# Altium integrated library ALTIUM-WE-LQS-rev18a.IntLib: 212 symbols (part 1 of 3)
Pins are listed as number, name and electrical type; pins without a type are passive.

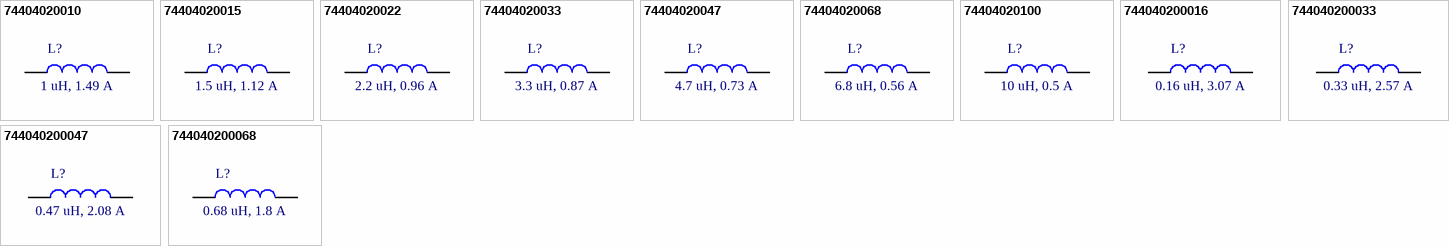
[diagram p0: symbols 74404020010 to 744040200068]

## 74404020010
designator L?, comment 1 uH, 1.49 A
SMT Semi-Shielded Power Inductor WE-LQS, size 2010, 1 uH, 1.49 A; Part Number: 74404020010; Rated Current: 1.49 A; Inductance: 1 uH; DC Resistance max.: 114 mOhm; Self Resonant Frequency: 177 MHz; Saturation Current: 2 A; ComponentLink1Description: Manufacturer; ComponentLink1URL: http://www.we-online.de; ComponentLink2Description: Datasheet; ComponentLink2URL: https://katalog.we-online.de/pbs/datasheet/74404020010.pdf; Published Date: November 2018; Publisher: Wurth Elektronik; Size: 2010; Operating Temperature: -40 to +125 degC; Mounting Technology: SMT; Packaging: Tape and Reel
footprint WE-LQS_2010
pins: 1, 2

## 74404020015
designator L?, comment 1.5 uH, 1.12 A
SMT Semi-Shielded Power Inductor WE-LQS, size 2010, 1.5 uH, 1.12 A; Part Number: 74404020015; Rated Current: 1.12 A; Inductance: 1.5 uH; DC Resistance max.: 174 mOhm; Self Resonant Frequency: 130 MHz; Saturation Current: 1.6 A; ComponentLink1Description: Manufacturer; ComponentLink1URL: http://www.we-online.de; ComponentLink2Description: Datasheet; ComponentLink2URL: https://katalog.we-online.de/pbs/datasheet/74404020015.pdf; Published Date: November 2018; Publisher: Wurth Elektronik; Size: 2010; Operating Temperature: -40 to +125 degC; Mounting Technology: SMT; Packaging: Tape and Reel
footprint WE-LQS_2010
pins: 1, 2

## 74404020022
designator L?, comment 2.2 uH, 0.96 A
SMT Semi-Shielded Power Inductor WE-LQS, size 2010, 2.2 uH, 0.96 A; Part Number: 74404020022; Rated Current: 0.96 A; Inductance: 2.2 uH; DC Resistance max.: 264 mOhm; Self Resonant Frequency: 107 MHz; Saturation Current: 1.4 A; ComponentLink1Description: Manufacturer; ComponentLink1URL: http://www.we-online.de; ComponentLink2Description: Datasheet; ComponentLink2URL: https://katalog.we-online.de/pbs/datasheet/74404020022.pdf; Published Date: November 2018; Publisher: Wurth Elektronik; Size: 2010; Operating Temperature: -40 to +125 degC; Mounting Technology: SMT; Packaging: Tape and Reel
footprint WE-LQS_2010
pins: 1, 2

## 74404020033
designator L?, comment 3.3 uH, 0.87 A
SMT Semi-Shielded Power Inductor WE-LQS, size 2010, 3.3 uH, 0.87 A; Part Number: 74404020033; Rated Current: 0.87 A; Inductance: 3.3 uH; DC Resistance max.: 334.8 mOhm; Self Resonant Frequency: 78 MHz; Saturation Current: 1.1 A; ComponentLink1Description: Manufacturer; ComponentLink1URL: http://www.we-online.de; ComponentLink2Description: Datasheet; ComponentLink2URL: https://katalog.we-online.de/pbs/datasheet/74404020033.pdf; Published Date: November 2018; Publisher: Wurth Elektronik; Size: 2010; Operating Temperature: -40 to +125 degC; Mounting Technology: SMT; Packaging: Tape and Reel
footprint WE-LQS_2010
pins: 1, 2

## 74404020047
designator L?, comment 4.7 uH, 0.73 A
SMT Semi-Shielded Power Inductor WE-LQS, size 2010, 4.7 uH, 0.73 A; Part Number: 74404020047; Rated Current: 0.73 A; Inductance: 4.7 uH; DC Resistance max.: 478.8 mOhm; Self Resonant Frequency: 71 MHz; Saturation Current: 0.8 A; ComponentLink1Description: Manufacturer; ComponentLink1URL: http://www.we-online.de; ComponentLink2Description: Datasheet; ComponentLink2URL: https://katalog.we-online.de/pbs/datasheet/74404020047.pdf; Published Date: November 2018; Publisher: Wurth Elektronik; Size: 2010; Operating Temperature: -40 to +125 degC; Mounting Technology: SMT; Packaging: Tape and Reel
footprint WE-LQS_2010
pins: 1, 2

## 74404020068
designator L?, comment 6.8 uH, 0.56 A
SMT Semi-Shielded Power Inductor WE-LQS, size 2010, 6.8 uH, 0.56 A; Part Number: 74404020068; Rated Current: 0.56 A; Inductance: 6.8 uH; DC Resistance max.: 816 mOhm; Self Resonant Frequency: 52 MHz; Saturation Current: 0.7 A; ComponentLink1Description: Manufacturer; ComponentLink1URL: http://www.we-online.de; ComponentLink2Description: Datasheet; ComponentLink2URL: https://katalog.we-online.de/pbs/datasheet/74404020068.pdf; Published Date: November 2018; Publisher: Wurth Elektronik; Size: 2010; Operating Temperature: -40 to +125 degC; Mounting Technology: SMT; Packaging: Tape and Reel
footprint WE-LQS_2010
pins: 1, 2

## 74404020100
designator L?, comment 10 uH, 0.5 A
SMT Semi-Shielded Power Inductor WE-LQS, size 2010, 10 uH, 0.5 A; Part Number: 74404020100; Rated Current: 0.5 A; Inductance: 10 uH; DC Resistance max.: 1020 mOhm; Self Resonant Frequency: 39 MHz; Saturation Current: 0.6 A; ComponentLink1Description: Manufacturer; ComponentLink1URL: http://www.we-online.de; ComponentLink2Description: Datasheet; ComponentLink2URL: https://katalog.we-online.de/pbs/datasheet/74404020100.pdf; Published Date: November 2018; Publisher: Wurth Elektronik; Size: 2010; Operating Temperature: -40 to +125 degC; Mounting Technology: SMT; Packaging: Tape and Reel
footprint WE-LQS_2010
pins: 1, 2

## 744040200016
designator L?, comment 0.16 uH, 3.07 A
SMT Semi-Shielded Power Inductor WE-LQS, size 2010, 0.16 uH, 3.07 A; Part Number: 744040200016; Rated Current: 3.07 A; Inductance: 0.16 uH; DC Resistance max.: 31.2 mOhm; Self Resonant Frequency: 540 MHz; Saturation Current: 4.9 A; ComponentLink1Description: Manufacturer; ComponentLink1URL: http://www.we-online.de; ComponentLink2Description: Datasheet; ComponentLink2URL: https://katalog.we-online.de/pbs/datasheet/744040200016.pdf; Published Date: November 2018; Publisher: Wurth Elektronik; Size: 2010; Operating Temperature: -40 to +125 degC; Mounting Technology: SMT; Packaging: Tape and Reel
footprint WE-LQS_2010
pins: 1, 2

## 744040200033
designator L?, comment 0.33 uH, 2.57 A
SMT Semi-Shielded Power Inductor WE-LQS, size 2010, 0.33 uH, 2.57 A; Part Number: 744040200033; Rated Current: 2.57 A; Inductance: 0.33 uH; DC Resistance max.: 42 mOhm; Self Resonant Frequency: 363 MHz; Saturation Current: 3.4 A; ComponentLink1Description: Manufacturer; ComponentLink1URL: http://www.we-online.de; ComponentLink2Description: Datasheet; ComponentLink2URL: https://katalog.we-online.de/pbs/datasheet/744040200033.pdf; Published Date: November 2018; Publisher: Wurth Elektronik; Size: 2010; Operating Temperature: -40 to +125 degC; Mounting Technology: SMT; Packaging: Tape and Reel
footprint WE-LQS_2010
pins: 1, 2

## 744040200047
designator L?, comment 0.47 uH, 2.08 A
SMT Semi-Shielded Power Inductor WE-LQS, size 2010, 0.47 uH, 2.08 A; Part Number: 744040200047; Rated Current: 2.08 A; Inductance: 0.47 uH; DC Resistance max.: 58.8 mOhm; Self Resonant Frequency: 293 MHz; Saturation Current: 2.7 A; ComponentLink1Description: Manufacturer; ComponentLink1URL: http://www.we-online.de; ComponentLink2Description: Datasheet; ComponentLink2URL: https://katalog.we-online.de/pbs/datasheet/744040200047.pdf; Published Date: November 2018; Publisher: Wurth Elektronik; Size: 2010; Operating Temperature: -40 to +125 degC; Mounting Technology: SMT; Packaging: Tape and Reel
footprint WE-LQS_2010
pins: 1, 2

## 744040200068
designator L?, comment 0.68 uH, 1.8 A
SMT Semi-Shielded Power Inductor WE-LQS, size 2010, 0.68 uH, 1.8 A; Part Number: 744040200068; Rated Current: 1.8 A; Inductance: 0.68 uH; DC Resistance max.: 75.6 mOhm; Self Resonant Frequency: 196 MHz; Saturation Current: 2.48 A; ComponentLink1Description: Manufacturer; ComponentLink1URL: http://www.we-online.de; ComponentLink2Description: Datasheet; ComponentLink2URL: https://katalog.we-online.de/pbs/datasheet/744040200068.pdf; Published Date: November 2018; Publisher: Wurth Elektronik; Size: 2010; Operating Temperature: -40 to +125 degC; Mounting Technology: SMT; Packaging: Tape and Reel
footprint WE-LQS_2010
pins: 1, 2


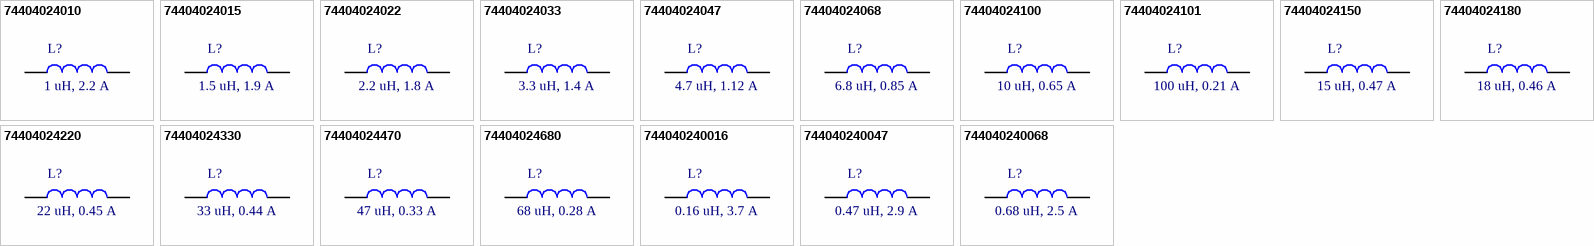
[diagram p1: symbols 74404024010 to 744040240068]

## 74404024010
designator L?, comment 1 uH, 2.2 A
SMT Semi-Shielded Power Inductor WE-LQS, size 2512, 1 uH, 2.2 A; Part Number: 74404024010; Rated Current: 2.2 A; Inductance: 1 uH; DC Resistance max.: 44.4 mOhm; Self Resonant Frequency: 159 MHz; Saturation Current: 2.6 A; ComponentLink1Description: Manufacturer; ComponentLink1URL: http://www.we-online.de; ComponentLink2Description: Datasheet; ComponentLink2URL: https://katalog.we-online.de/pbs/datasheet/74404024010.pdf; Published Date: November 2018; Publisher: Wurth Elektronik; Size: 2512; Operating Temperature: -40 to +125 degC; Mounting Technology: SMT; Packaging: Tape and Reel
footprint WE-LQS_2512
pins: 1, 2

## 74404024015
designator L?, comment 1.5 uH, 1.9 A
SMT Semi-Shielded Power Inductor WE-LQS, size 2512, 1.5 uH, 1.9 A; Part Number: 74404024015; Rated Current: 1.9 A; Inductance: 1.5 uH; DC Resistance max.: 78 mOhm; Self Resonant Frequency: 104 MHz; Saturation Current: 2.35 A; ComponentLink1Description: Manufacturer; ComponentLink1URL: http://www.we-online.de; ComponentLink2Description: Datasheet; ComponentLink2URL: https://katalog.we-online.de/pbs/datasheet/74404024015.pdf; Published Date: November 2018; Publisher: Wurth Elektronik; Size: 2512; Operating Temperature: -40 to +125 degC; Mounting Technology: SMT; Packaging: Tape and Reel
footprint WE-LQS_2512
pins: 1, 2

## 74404024022
designator L?, comment 2.2 uH, 1.8 A
SMT Semi-Shielded Power Inductor WE-LQS, size 2512, 2.2 uH, 1.8 A; Part Number: 74404024022; Rated Current: 1.8 A; Inductance: 2.2 uH; DC Resistance max.: 96 mOhm; Self Resonant Frequency: 83 MHz; Saturation Current: 1.95 A; ComponentLink1Description: Manufacturer; ComponentLink1URL: http://www.we-online.de; ComponentLink2Description: Datasheet; ComponentLink2URL: https://katalog.we-online.de/pbs/datasheet/74404024022.pdf; Published Date: November 2018; Publisher: Wurth Elektronik; Size: 2512; Operating Temperature: -40 to +125 degC; Mounting Technology: SMT; Packaging: Tape and Reel
footprint WE-LQS_2512
pins: 1, 2

## 74404024033
designator L?, comment 3.3 uH, 1.4 A
SMT Semi-Shielded Power Inductor WE-LQS, size 2512, 3.3 uH, 1.4 A; Part Number: 74404024033; Rated Current: 1.4 A; Inductance: 3.3 uH; DC Resistance max.: 144 mOhm; Self Resonant Frequency: 66 MHz; Saturation Current: 1.5 A; ComponentLink1Description: Manufacturer; ComponentLink1URL: http://www.we-online.de; ComponentLink2Description: Datasheet; ComponentLink2URL: https://katalog.we-online.de/pbs/datasheet/74404024033.pdf; Published Date: November 2018; Publisher: Wurth Elektronik; Size: 2512; Operating Temperature: -40 to +125 degC; Mounting Technology: SMT; Packaging: Tape and Reel
footprint WE-LQS_2512
pins: 1, 2

## 74404024047
designator L?, comment 4.7 uH, 1.12 A
SMT Semi-Shielded Power Inductor WE-LQS, size 2512, 4.7 uH, 1.12 A; Part Number: 74404024047; Rated Current: 1.12 A; Inductance: 4.7 uH; DC Resistance max.: 210 mOhm; Self Resonant Frequency: 52 MHz; Saturation Current: 1.2 A; ComponentLink1Description: Manufacturer; ComponentLink1URL: http://www.we-online.de; ComponentLink2Description: Datasheet; ComponentLink2URL: https://katalog.we-online.de/pbs/datasheet/74404024047.pdf; Published Date: November 2018; Publisher: Wurth Elektronik; Size: 2512; Operating Temperature: -40 to +125 degC; Mounting Technology: SMT; Packaging: Tape and Reel
footprint WE-LQS_2512
pins: 1, 2

## 74404024068
designator L?, comment 6.8 uH, 0.85 A
SMT Semi-Shielded Power Inductor WE-LQS, size 2512, 6.8 uH, 0.85 A; Part Number: 74404024068; Rated Current: 0.85 A; Inductance: 6.8 uH; DC Resistance max.: 360 mOhm; Self Resonant Frequency: 40 MHz; Saturation Current: 1 A; ComponentLink1Description: Manufacturer; ComponentLink1URL: http://www.we-online.de; ComponentLink2Description: Datasheet; ComponentLink2URL: https://katalog.we-online.de/pbs/datasheet/74404024068.pdf; Published Date: November 2018; Publisher: Wurth Elektronik; Size: 2512; Operating Temperature: -40 to +125 degC; Mounting Technology: SMT; Packaging: Tape and Reel
footprint WE-LQS_2512
pins: 1, 2

## 74404024100
designator L?, comment 10 uH, 0.65 A
SMT Semi-Shielded Power Inductor WE-LQS, size 2512, 10 uH, 0.65 A; Part Number: 74404024100; Rated Current: 0.65 A; Inductance: 10 uH; DC Resistance max.: 522 mOhm; Self Resonant Frequency: 30 MHz; Saturation Current: 0.85 A; ComponentLink1Description: Manufacturer; ComponentLink1URL: http://www.we-online.de; ComponentLink2Description: Datasheet; ComponentLink2URL: https://katalog.we-online.de/pbs/datasheet/74404024100.pdf; Published Date: November 2018; Publisher: Wurth Elektronik; Size: 2512; Operating Temperature: -40 to +125 degC; Mounting Technology: SMT; Packaging: Tape and Reel
footprint WE-LQS_2512
pins: 1, 2

## 74404024101
designator L?, comment 100 uH, 0.21 A
SMT Semi-Shielded Power Inductor WE-LQS, size 2512, 100 uH, 0.21 A; Part Number: 74404024101; Rated Current: 0.21 A; Inductance: 100 uH; DC Resistance max.: 5400 mOhm; Self Resonant Frequency: 6 MHz; Saturation Current: 0.22 A; ComponentLink1Description: Manufacturer; ComponentLink1URL: http://www.we-online.de; ComponentLink2Description: Datasheet; ComponentLink2URL: https://katalog.we-online.de/pbs/datasheet/74404024101.pdf; Published Date: November 2018; Publisher: Wurth Elektronik; Size: 2512; Operating Temperature: -40 to +125 degC; Mounting Technology: SMT; Packaging: Tape and Reel
footprint WE-LQS_2512
pins: 1, 2

## 74404024150
designator L?, comment 15 uH, 0.47 A
SMT Semi-Shielded Power Inductor WE-LQS, size 2512, 15 uH, 0.47 A; Part Number: 74404024150; Rated Current: 0.47 A; Inductance: 15 uH; DC Resistance max.: 996 mOhm; Self Resonant Frequency: 28 MHz; Saturation Current: 0.75 A; ComponentLink1Description: Manufacturer; ComponentLink1URL: http://www.we-online.de; ComponentLink2Description: Datasheet; ComponentLink2URL: https://katalog.we-online.de/pbs/datasheet/74404024150.pdf; Published Date: November 2018; Publisher: Wurth Elektronik; Size: 2512; Operating Temperature: -40 to +125 degC; Mounting Technology: SMT; Packaging: Tape and Reel
footprint WE-LQS_2512
pins: 1, 2

## 74404024180
designator L?, comment 18 uH, 0.46 A
SMT Semi-Shielded Power Inductor WE-LQS, size 2512, 18 uH, 0.46 A; Part Number: 74404024180; Rated Current: 0.46 A; Inductance: 18 uH; DC Resistance max.: 996 mOhm; Self Resonant Frequency: 26 MHz; Saturation Current: 0.65 A; ComponentLink1Description: Manufacturer; ComponentLink1URL: http://www.we-online.de; ComponentLink2Description: Datasheet; ComponentLink2URL: https://katalog.we-online.de/pbs/datasheet/74404024180.pdf; Published Date: November 2018; Publisher: Wurth Elektronik; Size: 2512; Operating Temperature: -40 to +125 degC; Mounting Technology: SMT; Packaging: Tape and Reel
footprint WE-LQS_2512
pins: 1, 2

## 74404024220
designator L?, comment 22 uH, 0.45 A
SMT Semi-Shielded Power Inductor WE-LQS, size 2512, 22 uH, 0.45 A; Part Number: 74404024220; Rated Current: 0.45 A; Inductance: 22 uH; DC Resistance max.: 1092 mOhm; Self Resonant Frequency: 22 MHz; Saturation Current: 0.55 A; ComponentLink1Description: Manufacturer; ComponentLink1URL: http://www.we-online.de; ComponentLink2Description: Datasheet; ComponentLink2URL: https://katalog.we-online.de/pbs/datasheet/74404024220.pdf; Published Date: November 2018; Publisher: Wurth Elektronik; Size: 2512; Operating Temperature: -40 to +125 degC; Mounting Technology: SMT; Packaging: Tape and Reel
footprint WE-LQS_2512
pins: 1, 2

## 74404024330
designator L?, comment 33 uH, 0.44 A
SMT Semi-Shielded Power Inductor WE-LQS, size 2512, 33 uH, 0.44 A; Part Number: 74404024330; Rated Current: 0.44 A; Inductance: 33 uH; DC Resistance max.: 1836 mOhm; Self Resonant Frequency: 17 MHz; Saturation Current: 0.4 A; ComponentLink1Description: Manufacturer; ComponentLink1URL: http://www.we-online.de; ComponentLink2Description: Datasheet; ComponentLink2URL: https://katalog.we-online.de/pbs/datasheet/74404024330.pdf; Published Date: November 2018; Publisher: Wurth Elektronik; Size: 2512; Operating Temperature: -40 to +125 degC; Mounting Technology: SMT; Packaging: Tape and Reel
footprint WE-LQS_2512
pins: 1, 2

## 74404024470
designator L?, comment 47 uH, 0.33 A
SMT Semi-Shielded Power Inductor WE-LQS, size 2512, 47 uH, 0.33 A; Part Number: 74404024470; Rated Current: 0.33 A; Inductance: 47 uH; DC Resistance max.: 2040 mOhm; Self Resonant Frequency: 12 MHz; Saturation Current: 0.35 A; ComponentLink1Description: Manufacturer; ComponentLink1URL: http://www.we-online.de; ComponentLink2Description: Datasheet; ComponentLink2URL: https://katalog.we-online.de/pbs/datasheet/74404024470.pdf; Published Date: November 2018; Publisher: Wurth Elektronik; Size: 2512; Operating Temperature: -40 to +125 degC; Mounting Technology: SMT; Packaging: Tape and Reel
footprint WE-LQS_2512
pins: 1, 2

## 74404024680
designator L?, comment 68 uH, 0.28 A
SMT Semi-Shielded Power Inductor WE-LQS, size 2512, 68 uH, 0.28 A; Part Number: 74404024680; Rated Current: 0.28 A; Inductance: 68 uH; DC Resistance max.: 3000 mOhm; Self Resonant Frequency: 8 MHz; Saturation Current: 0.3 A; ComponentLink1Description: Manufacturer; ComponentLink1URL: http://www.we-online.de; ComponentLink2Description: Datasheet; ComponentLink2URL: https://katalog.we-online.de/pbs/datasheet/74404024680.pdf; Published Date: November 2018; Publisher: Wurth Elektronik; Size: 2512; Operating Temperature: -40 to +125 degC; Mounting Technology: SMT; Packaging: Tape and Reel
footprint WE-LQS_2512
pins: 1, 2

## 744040240016
designator L?, comment 0.16 uH, 3.7 A
SMT Semi-Shielded Power Inductor WE-LQS, size 2512, 0.16 uH, 3.7 A; Part Number: 744040240016; Rated Current: 3.7 A; Inductance: 0.16 uH; DC Resistance max.: 19.2 mOhm; Self Resonant Frequency: 644 MHz; Saturation Current: 6.4 A; ComponentLink1Description: Manufacturer; ComponentLink1URL: http://www.we-online.de; ComponentLink2Description: Datasheet; ComponentLink2URL: https://katalog.we-online.de/pbs/datasheet/744040240016.pdf; Published Date: November 2018; Publisher: Wurth Elektronik; Size: 2512; Operating Temperature: -40 to +125 degC; Mounting Technology: SMT; Packaging: Tape and Reel
footprint WE-LQS_2512
pins: 1, 2

## 744040240047
designator L?, comment 0.47 uH, 2.9 A
SMT Semi-Shielded Power Inductor WE-LQS, size 2512, 0.47 uH, 2.9 A; Part Number: 744040240047; Rated Current: 2.9 A; Inductance: 0.47 uH; DC Resistance max.: 38.4 mOhm; Self Resonant Frequency: 231 MHz; Saturation Current: 5.2 A; ComponentLink1Description: Manufacturer; ComponentLink1URL: http://www.we-online.de; ComponentLink2Description: Datasheet; ComponentLink2URL: https://katalog.we-online.de/pbs/datasheet/744040240047.pdf; Published Date: November 2018; Publisher: Wurth Elektronik; Size: 2512; Operating Temperature: -40 to +125 degC; Mounting Technology: SMT; Packaging: Tape and Reel
footprint WE-LQS_2512
pins: 1, 2

## 744040240068
designator L?, comment 0.68 uH, 2.5 A
SMT Semi-Shielded Power Inductor WE-LQS, size 2512, 0.68 uH, 2.5 A; Part Number: 744040240068; Rated Current: 2.5 A; Inductance: 0.68 uH; DC Resistance max.: 42 mOhm; Self Resonant Frequency: 176 MHz; Saturation Current: 3.5 A; ComponentLink1Description: Manufacturer; ComponentLink1URL: http://www.we-online.de; ComponentLink2Description: Datasheet; ComponentLink2URL: https://katalog.we-online.de/pbs/datasheet/744040240068.pdf; Published Date: November 2018; Publisher: Wurth Elektronik; Size: 2512; Operating Temperature: -40 to +125 degC; Mounting Technology: SMT; Packaging: Tape and Reel
footprint WE-LQS_2512
pins: 1, 2


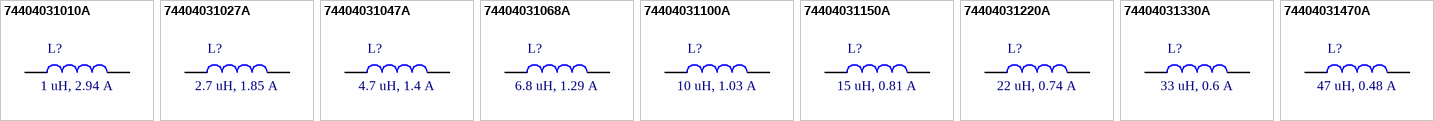
[diagram p2: symbols 74404031010A to 74404031470A]

## 74404031010A
designator L?, comment 1 uH, 2.94 A
SMT Semi-Shielded Power Inductor WE-LQS, size 3012, 1 uH, 2.94 A; Part Number: 74404031010A; Rated Current: 2.94 A; Inductance: 1 uH; DC Resistance max.: 37.2 mOhm; Self Resonant Frequency: 210 MHz; Saturation Current: 2.04 A; ComponentLink1Description: Manufacturer; ComponentLink1URL: http://www.we-online.de; ComponentLink2Description: Datasheet; ComponentLink2URL: https://katalog.we-online.de/pbs/datasheet/74404031010A.pdf; Published Date: November 2018; Publisher: Wurth Elektronik; Size: 3012; Operating Temperature: -40 to +125 degC; Mounting Technology: SMT; Packaging: Tape and Reel
footprint WE-LQS_3012
pins: 1, 2

## 74404031027A
designator L?, comment 2.7 uH, 1.85 A
SMT Semi-Shielded Power Inductor WE-LQS, size 3012, 2.7 uH, 1.85 A; Part Number: 74404031027A; Rated Current: 1.85 A; Inductance: 2.7 uH; DC Resistance max.: 96 mOhm; Self Resonant Frequency: 121 MHz; Saturation Current: 1.66 A; ComponentLink1Description: Manufacturer; ComponentLink1URL: http://www.we-online.de; ComponentLink2Description: Datasheet; ComponentLink2URL: https://katalog.we-online.de/pbs/datasheet/74404031027A.pdf; Published Date: November 2018; Publisher: Wurth Elektronik; Size: 3012; Operating Temperature: -40 to +125 degC; Mounting Technology: SMT; Packaging: Tape and Reel
footprint WE-LQS_3012
pins: 1, 2

## 74404031047A
designator L?, comment 4.7 uH, 1.4 A
SMT Semi-Shielded Power Inductor WE-LQS, size 3012, 4.7 uH, 1.4 A; Part Number: 74404031047A; Rated Current: 1.4 A; Inductance: 4.7 uH; DC Resistance max.: 166.8 mOhm; Self Resonant Frequency: 95 MHz; Saturation Current: 1 A; ComponentLink1Description: Manufacturer; ComponentLink1URL: http://www.we-online.de; ComponentLink2Description: Datasheet; ComponentLink2URL: https://katalog.we-online.de/pbs/datasheet/74404031047A.pdf; Published Date: November 2018; Publisher: Wurth Elektronik; Size: 3012; Operating Temperature: -40 to +125 degC; Mounting Technology: SMT; Packaging: Tape and Reel
footprint WE-LQS_3012
pins: 1, 2

## 74404031068A
designator L?, comment 6.8 uH, 1.29 A
SMT Semi-Shielded Power Inductor WE-LQS, size 3012, 6.8 uH, 1.29 A; Part Number: 74404031068A; Rated Current: 1.29 A; Inductance: 6.8 uH; DC Resistance max.: 196.8 mOhm; Self Resonant Frequency: 69 MHz; Saturation Current: 0.74 A; ComponentLink1Description: Manufacturer; ComponentLink1URL: http://www.we-online.de; ComponentLink2Description: Datasheet; ComponentLink2URL: https://katalog.we-online.de/pbs/datasheet/74404031068A.pdf; Published Date: November 2018; Publisher: Wurth Elektronik; Size: 3012; Operating Temperature: -40 to +125 degC; Mounting Technology: SMT; Packaging: Tape and Reel
footprint WE-LQS_3012
pins: 1, 2

## 74404031100A
designator L?, comment 10 uH, 1.03 A
SMT Semi-Shielded Power Inductor WE-LQS, size 3012, 10 uH, 1.03 A; Part Number: 74404031100A; Rated Current: 1.03 A; Inductance: 10 uH; DC Resistance max.: 304.8 mOhm; Self Resonant Frequency: 58 MHz; Saturation Current: 0.58 A; ComponentLink1Description: Manufacturer; ComponentLink1URL: http://www.we-online.de; ComponentLink2Description: Datasheet; ComponentLink2URL: https://katalog.we-online.de/pbs/datasheet/74404031100A.pdf; Published Date: November 2018; Publisher: Wurth Elektronik; Size: 3012; Operating Temperature: -40 to +125 degC; Mounting Technology: SMT; Packaging: Tape and Reel
footprint WE-LQS_3012
pins: 1, 2

## 74404031150A
designator L?, comment 15 uH, 0.81 A
SMT Semi-Shielded Power Inductor WE-LQS, size 3012, 15 uH, 0.81 A; Part Number: 74404031150A; Rated Current: 0.81 A; Inductance: 15 uH; DC Resistance max.: 483.6 mOhm; Self Resonant Frequency: 46 MHz; Saturation Current: 0.53 A; ComponentLink1Description: Manufacturer; ComponentLink1URL: http://www.we-online.de; ComponentLink2Description: Datasheet; ComponentLink2URL: https://katalog.we-online.de/pbs/datasheet/74404031150A.pdf; Published Date: November 2018; Publisher: Wurth Elektronik; Size: 3012; Operating Temperature: -40 to +125 degC; Mounting Technology: SMT; Packaging: Tape and Reel
footprint WE-LQS_3012
pins: 1, 2

## 74404031220A
designator L?, comment 22 uH, 0.74 A
SMT Semi-Shielded Power Inductor WE-LQS, size 3012, 22 uH, 0.74 A; Part Number: 74404031220A; Rated Current: 0.74 A; Inductance: 22 uH; DC Resistance max.: 628.8 mOhm; Self Resonant Frequency: 36 MHz; Saturation Current: 0.43 A; ComponentLink1Description: Manufacturer; ComponentLink1URL: http://www.we-online.de; ComponentLink2Description: Datasheet; ComponentLink2URL: https://katalog.we-online.de/pbs/datasheet/74404031220A.pdf; Published Date: November 2018; Publisher: Wurth Elektronik; Size: 3012; Operating Temperature: -40 to +125 degC; Mounting Technology: SMT; Packaging: Tape and Reel
footprint WE-LQS_3012
pins: 1, 2

## 74404031330A
designator L?, comment 33 uH, 0.6 A
SMT Semi-Shielded Power Inductor WE-LQS, size 3012, 33 uH, 0.6 A; Part Number: 74404031330A; Rated Current: 0.6 A; Inductance: 33 uH; DC Resistance max.: 962.4 mOhm; Self Resonant Frequency: 29 MHz; Saturation Current: 0.35 A; ComponentLink1Description: Manufacturer; ComponentLink1URL: http://www.we-online.de; ComponentLink2Description: Datasheet; ComponentLink2URL: https://katalog.we-online.de/pbs/datasheet/74404031330A.pdf; Published Date: November 2018; Publisher: Wurth Elektronik; Size: 3012; Operating Temperature: -40 to +125 degC; Mounting Technology: SMT; Packaging: Tape and Reel
footprint WE-LQS_3012
pins: 1, 2

## 74404031470A
designator L?, comment 47 uH, 0.48 A
SMT Semi-Shielded Power Inductor WE-LQS, size 3012, 47 uH, 0.48 A; Part Number: 74404031470A; Rated Current: 0.48 A; Inductance: 47 uH; DC Resistance max.: 1503.6 mOhm; Self Resonant Frequency: 25 MHz; Saturation Current: 0.28 A; ComponentLink1Description: Manufacturer; ComponentLink1URL: http://www.we-online.de; ComponentLink2Description: Datasheet; ComponentLink2URL: https://katalog.we-online.de/pbs/datasheet/74404031470A.pdf; Published Date: November 2018; Publisher: Wurth Elektronik; Size: 3012; Operating Temperature: -40 to +125 degC; Mounting Technology: SMT; Packaging: Tape and Reel
footprint WE-LQS_3012
pins: 1, 2


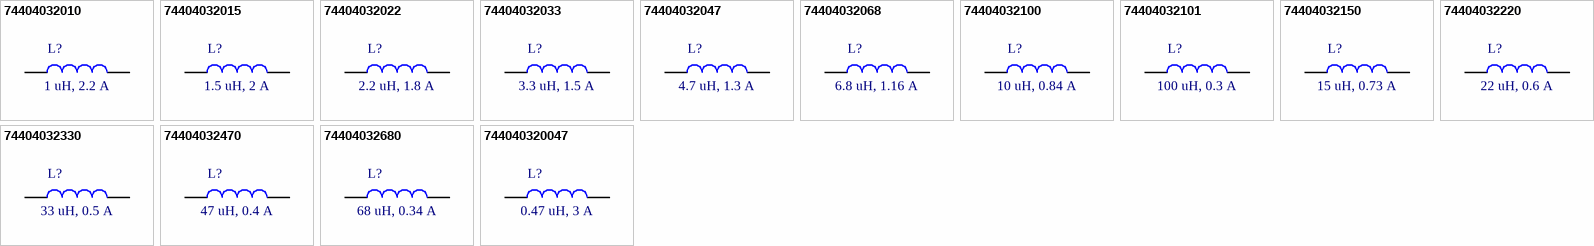
[diagram p3: symbols 74404032010 to 744040320047]

## 74404032010
designator L?, comment 1 uH, 2.2 A
SMT Semi-Shielded Power Inductor WE-LQS, size 3015, 1 uH, 2.2 A; Part Number: 74404032010; Rated Current: 2.2 A; Inductance: 1 uH; DC Resistance max.: 39.6 mOhm; Self Resonant Frequency: 138 MHz; Saturation Current: 3 A; ComponentLink1Description: Manufacturer; ComponentLink1URL: http://www.we-online.de; ComponentLink2Description: Datasheet; ComponentLink2URL: https://katalog.we-online.de/pbs/datasheet/74404032010.pdf; Published Date: November 2018; Publisher: Wurth Elektronik; Size: 3015; Operating Temperature: -40 to +125 degC; Mounting Technology: SMT; Packaging: Tape and Reel
footprint WE-LQS_3015
pins: 1, 2

## 74404032015
designator L?, comment 1.5 uH, 2 A
SMT Semi-Shielded Power Inductor WE-LQS, size 3015, 1.5 uH, 2 A; Part Number: 74404032015; Rated Current: 2 A; Inductance: 1.5 uH; DC Resistance max.: 48 mOhm; Self Resonant Frequency: 100 MHz; Saturation Current: 2.3 A; ComponentLink1Description: Manufacturer; ComponentLink1URL: http://www.we-online.de; ComponentLink2Description: Datasheet; ComponentLink2URL: https://katalog.we-online.de/pbs/datasheet/74404032015.pdf; Published Date: November 2018; Publisher: Wurth Elektronik; Size: 3015; Operating Temperature: -40 to +125 degC; Mounting Technology: SMT; Packaging: Tape and Reel
footprint WE-LQS_3015
pins: 1, 2

## 74404032022
designator L?, comment 2.2 uH, 1.8 A
SMT Semi-Shielded Power Inductor WE-LQS, size 3015, 2.2 uH, 1.8 A; Part Number: 74404032022; Rated Current: 1.8 A; Inductance: 2.2 uH; DC Resistance max.: 60 mOhm; Self Resonant Frequency: 75 MHz; Saturation Current: 1.7 A; ComponentLink1Description: Manufacturer; ComponentLink1URL: http://www.we-online.de; ComponentLink2Description: Datasheet; ComponentLink2URL: https://katalog.we-online.de/pbs/datasheet/74404032022.pdf; Published Date: November 2018; Publisher: Wurth Elektronik; Size: 3015; Operating Temperature: -40 to +125 degC; Mounting Technology: SMT; Packaging: Tape and Reel
footprint WE-LQS_3015
pins: 1, 2

## 74404032033
designator L?, comment 3.3 uH, 1.5 A
SMT Semi-Shielded Power Inductor WE-LQS, size 3015, 3.3 uH, 1.5 A; Part Number: 74404032033; Rated Current: 1.5 A; Inductance: 3.3 uH; DC Resistance max.: 84 mOhm; Self Resonant Frequency: 72 MHz; ComponentLink1Description: Manufacturer; ComponentLink1URL: http://www.we-online.de; ComponentLink2Description: Datasheet; ComponentLink2URL: https://katalog.we-online.de/pbs/datasheet/74404032033.pdf; Published Date: November 2018; Publisher: Wurth Elektronik; Size: 3015; Operating Temperature: -40 to +125 degC; Mounting Technology: SMT; Packaging: Tape and Reel; Saturation Current: 1.5 A
footprint WE-LQS_3015
pins: 1, 2

## 74404032047
designator L?, comment 4.7 uH, 1.3 A
SMT Semi-Shielded Power Inductor WE-LQS, size 3015, 4.7 uH, 1.3 A; Part Number: 74404032047; Rated Current: 1.3 A; Inductance: 4.7 uH; DC Resistance max.: 115.2 mOhm; Self Resonant Frequency: 50 MHz; Saturation Current: 1.2 A; ComponentLink1Description: Manufacturer; ComponentLink1URL: http://www.we-online.de; ComponentLink2Description: Datasheet; ComponentLink2URL: https://katalog.we-online.de/pbs/datasheet/74404032047.pdf; Published Date: November 2018; Publisher: Wurth Elektronik; Size: 3015; Operating Temperature: -40 to +125 degC; Mounting Technology: SMT; Packaging: Tape and Reel
footprint WE-LQS_3015
pins: 1, 2

## 74404032068
designator L?, comment 6.8 uH, 1.16 A
SMT Semi-Shielded Power Inductor WE-LQS, size 3015, 6.8 uH, 1.16 A; Part Number: 74404032068; Rated Current: 1.16 A; Inductance: 6.8 uH; DC Resistance max.: 144 mOhm; Self Resonant Frequency: 42 MHz; Saturation Current: 0.94 A; ComponentLink1Description: Manufacturer; ComponentLink1URL: http://www.we-online.de; ComponentLink2Description: Datasheet; ComponentLink2URL: https://katalog.we-online.de/pbs/datasheet/74404032068.pdf; Published Date: November 2018; Publisher: Wurth Elektronik; Size: 3015; Operating Temperature: -40 to +125 degC; Mounting Technology: SMT; Packaging: Tape and Reel
footprint WE-LQS_3015
pins: 1, 2

## 74404032100
designator L?, comment 10 uH, 0.84 A
SMT Semi-Shielded Power Inductor WE-LQS, size 3015, 10 uH, 0.84 A; Part Number: 74404032100; Rated Current: 0.84 A; Inductance: 10 uH; DC Resistance max.: 276 mOhm; Self Resonant Frequency: 33 MHz; Saturation Current: 0.87 A; ComponentLink1Description: Manufacturer; ComponentLink1URL: http://www.we-online.de; ComponentLink2Description: Datasheet; ComponentLink2URL: https://katalog.we-online.de/pbs/datasheet/74404032100.pdf; Published Date: November 2018; Publisher: Wurth Elektronik; Size: 3015; Operating Temperature: -40 to +125 degC; Mounting Technology: SMT; Packaging: Tape and Reel
footprint WE-LQS_3015
pins: 1, 2

## 74404032101
designator L?, comment 100 uH, 0.3 A
SMT Semi-Shielded Power Inductor WE-LQS, size 3015, 100 uH, 0.3 A; Part Number: 74404032101; Rated Current: 0.3 A; Inductance: 100 uH; DC Resistance max.: 2280 mOhm; Self Resonant Frequency: 6 MHz; Saturation Current: 0.26 A; ComponentLink1Description: Manufacturer; ComponentLink1URL: http://www.we-online.de; ComponentLink2Description: Datasheet; ComponentLink2URL: https://katalog.we-online.de/pbs/datasheet/74404032101.pdf; Published Date: November 2018; Publisher: Wurth Elektronik; Size: 3015; Operating Temperature: -40 to +125 degC; Mounting Technology: SMT; Packaging: Tape and Reel
footprint WE-LQS_3015
pins: 1, 2

## 74404032150
designator L?, comment 15 uH, 0.73 A
SMT Semi-Shielded Power Inductor WE-LQS, size 3015, 15 uH, 0.73 A; Part Number: 74404032150; Rated Current: 0.73 A; Inductance: 15 uH; DC Resistance max.: 360 mOhm; Self Resonant Frequency: 23 MHz; Saturation Current: 0.8 A; ComponentLink1Description: Manufacturer; ComponentLink1URL: http://www.we-online.de; ComponentLink2Description: Datasheet; ComponentLink2URL: https://katalog.we-online.de/pbs/datasheet/74404032150.pdf; Published Date: November 2018; Publisher: Wurth Elektronik; Size: 3015; Operating Temperature: -40 to +125 degC; Mounting Technology: SMT; Packaging: Tape and Reel
footprint WE-LQS_3015
pins: 1, 2

## 74404032220
designator L?, comment 22 uH, 0.6 A
SMT Semi-Shielded Power Inductor WE-LQS, size 3015, 22 uH, 0.6 A; Part Number: 74404032220; Rated Current: 0.6 A; Inductance: 22 uH; DC Resistance max.: 540 mOhm; Self Resonant Frequency: 19 MHz; ComponentLink1Description: Manufacturer; ComponentLink1URL: http://www.we-online.de; ComponentLink2Description: Datasheet; ComponentLink2URL: https://katalog.we-online.de/pbs/datasheet/74404032220.pdf; Published Date: November 2018; Publisher: Wurth Elektronik; Size: 3015; Operating Temperature: -40 to +125 degC; Mounting Technology: SMT; Packaging: Tape and Reel; Saturation Current: 0.6 A
footprint WE-LQS_3015
pins: 1, 2

## 74404032330
designator L?, comment 33 uH, 0.5 A
SMT Semi-Shielded Power Inductor WE-LQS, size 3015, 33 uH, 0.5 A; Part Number: 74404032330; Rated Current: 0.5 A; Inductance: 33 uH; DC Resistance max.: 1093.2 mOhm; Self Resonant Frequency: 17 MHz; Saturation Current: 0.54 A; ComponentLink1Description: Manufacturer; ComponentLink1URL: http://www.we-online.de; ComponentLink2Description: Datasheet; ComponentLink2URL: https://katalog.we-online.de/pbs/datasheet/74404032330.pdf; Published Date: November 2018; Publisher: Wurth Elektronik; Size: 3015; Operating Temperature: -40 to +125 degC; Mounting Technology: SMT; Packaging: Tape and Reel
footprint WE-LQS_3015
pins: 1, 2

## 74404032470
designator L?, comment 47 uH, 0.4 A
SMT Semi-Shielded Power Inductor WE-LQS, size 3015, 47 uH, 0.4 A; Part Number: 74404032470; Rated Current: 0.4 A; Inductance: 47 uH; DC Resistance max.: 1260 mOhm; Self Resonant Frequency: 15 MHz; Saturation Current: 0.41 A; ComponentLink1Description: Manufacturer; ComponentLink1URL: http://www.we-online.de; ComponentLink2Description: Datasheet; ComponentLink2URL: https://katalog.we-online.de/pbs/datasheet/74404032470.pdf; Published Date: November 2018; Publisher: Wurth Elektronik; Size: 3015; Operating Temperature: -40 to +125 degC; Mounting Technology: SMT; Packaging: Tape and Reel
footprint WE-LQS_3015
pins: 1, 2

## 74404032680
designator L?, comment 68 uH, 0.34 A
SMT Semi-Shielded Power Inductor WE-LQS, size 3015, 68 uH, 0.34 A; Part Number: 74404032680; Rated Current: 0.34 A; Inductance: 68 uH; DC Resistance max.: 1920 mOhm; Self Resonant Frequency: 10 MHz; Saturation Current: 0.35 A; ComponentLink1Description: Manufacturer; ComponentLink1URL: http://www.we-online.de; ComponentLink2Description: Datasheet; ComponentLink2URL: https://katalog.we-online.de/pbs/datasheet/74404032680.pdf; Published Date: November 2018; Publisher: Wurth Elektronik; Size: 3015; Operating Temperature: -40 to +125 degC; Mounting Technology: SMT; Packaging: Tape and Reel
footprint WE-LQS_3015
pins: 1, 2

## 744040320047
designator L?, comment 0.47 uH, 3 A
SMT Semi-Shielded Power Inductor WE-LQS, size 3015, 0.47 uH, 3 A; Part Number: 744040320047; Rated Current: 3 A; Inductance: 0.47 uH; DC Resistance max.: 21.6 mOhm; Self Resonant Frequency: 304 MHz; Saturation Current: 2.8 A; ComponentLink1Description: Manufacturer; ComponentLink1URL: http://www.we-online.de; ComponentLink2Description: Datasheet; ComponentLink2URL: https://katalog.we-online.de/pbs/datasheet/744040320047.pdf; Published Date: November 2018; Publisher: Wurth Elektronik; Size: 3015; Operating Temperature: -40 to +125 degC; Mounting Technology: SMT; Packaging: Tape and Reel
footprint WE-LQS_3015
pins: 1, 2


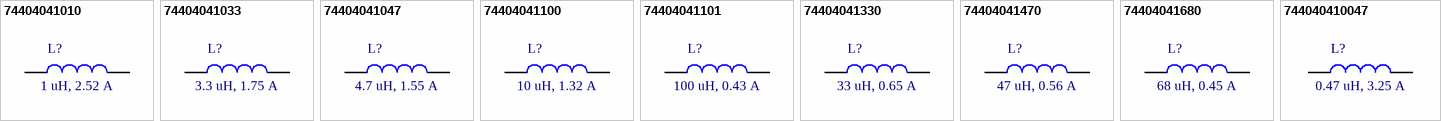
[diagram p4: symbols 74404041010 to 744040410047]

## 74404041010
designator L?, comment 1 uH, 2.52 A
SMT Semi-Shielded Power Inductor WE-LQS, size 4012, 1 uH, 2.52 A; Part Number: 74404041010; Rated Current: 2.52 A; Inductance: 1 uH; DC Resistance max.: 49.2 mOhm; Self Resonant Frequency: 142 MHz; Saturation Current: 3.35 A; ComponentLink1Description: Manufacturer; ComponentLink1URL: http://www.we-online.de; ComponentLink2Description: Datasheet; ComponentLink2URL: https://katalog.we-online.de/pbs/datasheet/74404041010.pdf; Published Date: November 2018; Publisher: Wurth Elektronik; Size: 4012; Operating Temperature: -40 to +125 degC; Mounting Technology: SMT; Packaging: Tape and Reel
footprint WE-LQS_4012
pins: 1, 2

## 74404041033
designator L?, comment 3.3 uH, 1.75 A
SMT Semi-Shielded Power Inductor WE-LQS, size 4012, 3.3 uH, 1.75 A; Part Number: 74404041033; Rated Current: 1.75 A; Inductance: 3.3 uH; DC Resistance max.: 82.8 mOhm; Self Resonant Frequency: 78 MHz; Saturation Current: 2.1 A; ComponentLink1Description: Manufacturer; ComponentLink1URL: http://www.we-online.de; ComponentLink2Description: Datasheet; ComponentLink2URL: https://katalog.we-online.de/pbs/datasheet/74404041033.pdf; Published Date: November 2018; Publisher: Wurth Elektronik; Size: 4012; Operating Temperature: -40 to +125 degC; Mounting Technology: SMT; Packaging: Tape and Reel
footprint WE-LQS_4012
pins: 1, 2

## 74404041047
designator L?, comment 4.7 uH, 1.55 A
SMT Semi-Shielded Power Inductor WE-LQS, size 4012, 4.7 uH, 1.55 A; Part Number: 74404041047; Rated Current: 1.55 A; Inductance: 4.7 uH; DC Resistance max.: 109.2 mOhm; Self Resonant Frequency: 55 MHz; Saturation Current: 1.9 A; ComponentLink1Description: Manufacturer; ComponentLink1URL: http://www.we-online.de; ComponentLink2Description: Datasheet; ComponentLink2URL: https://katalog.we-online.de/pbs/datasheet/74404041047.pdf; Published Date: November 2018; Publisher: Wurth Elektronik; Size: 4012; Operating Temperature: -40 to +125 degC; Mounting Technology: SMT; Packaging: Tape and Reel
footprint WE-LQS_4012
pins: 1, 2

## 74404041100
designator L?, comment 10 uH, 1.32 A
SMT Semi-Shielded Power Inductor WE-LQS, size 4012, 10 uH, 1.32 A; Part Number: 74404041100; Rated Current: 1.32 A; Inductance: 10 uH; DC Resistance max.: 201.6 mOhm; Self Resonant Frequency: 38 MHz; Saturation Current: 1 A; ComponentLink1Description: Manufacturer; ComponentLink1URL: http://www.we-online.de; ComponentLink2Description: Datasheet; ComponentLink2URL: https://katalog.we-online.de/pbs/datasheet/74404041100.pdf; Published Date: November 2018; Publisher: Wurth Elektronik; Size: 4012; Operating Temperature: -40 to +125 degC; Mounting Technology: SMT; Packaging: Tape and Reel
footprint WE-LQS_4012
pins: 1, 2

## 74404041101
designator L?, comment 100 uH, 0.43 A
SMT Semi-Shielded Power Inductor WE-LQS, size 4012, 100 uH, 0.43 A; Part Number: 74404041101; Rated Current: 0.43 A; Inductance: 100 uH; DC Resistance max.: 2036.4 mOhm; Self Resonant Frequency: 10 MHz; Saturation Current: 0.35 A; ComponentLink1Description: Manufacturer; ComponentLink1URL: http://www.we-online.de; ComponentLink2Description: Datasheet; ComponentLink2URL: https://katalog.we-online.de/pbs/datasheet/74404041101.pdf; Published Date: November 2018; Publisher: Wurth Elektronik; Size: 4012; Operating Temperature: -40 to +125 degC; Mounting Technology: SMT; Packaging: Tape and Reel
footprint WE-LQS_4012
pins: 1, 2

## 74404041330
designator L?, comment 33 uH, 0.65 A
SMT Semi-Shielded Power Inductor WE-LQS, size 4012, 33 uH, 0.65 A; Part Number: 74404041330; Rated Current: 0.65 A; Inductance: 33 uH; DC Resistance max.: 753.6 mOhm; Self Resonant Frequency: 18 MHz; Saturation Current: 0.6 A; ComponentLink1Description: Manufacturer; ComponentLink1URL: http://www.we-online.de; ComponentLink2Description: Datasheet; ComponentLink2URL: https://katalog.we-online.de/pbs/datasheet/74404041330.pdf; Published Date: November 2018; Publisher: Wurth Elektronik; Size: 4012; Operating Temperature: -40 to +125 degC; Mounting Technology: SMT; Packaging: Tape and Reel
footprint WE-LQS_4012
pins: 1, 2

## 74404041470
designator L?, comment 47 uH, 0.56 A
SMT Semi-Shielded Power Inductor WE-LQS, size 4012, 47 uH, 0.56 A; Part Number: 74404041470; Rated Current: 0.56 A; Inductance: 47 uH; DC Resistance max.: 1184.4 mOhm; Self Resonant Frequency: 15 MHz; Saturation Current: 0.55 A; ComponentLink1Description: Manufacturer; ComponentLink1URL: http://www.we-online.de; ComponentLink2Description: Datasheet; ComponentLink2URL: https://katalog.we-online.de/pbs/datasheet/74404041470.pdf; Published Date: November 2018; Publisher: Wurth Elektronik; Size: 4012; Operating Temperature: -40 to +125 degC; Mounting Technology: SMT; Packaging: Tape and Reel
footprint WE-LQS_4012
pins: 1, 2

## 74404041680
designator L?, comment 68 uH, 0.45 A
SMT Semi-Shielded Power Inductor WE-LQS, size 4012, 68 uH, 0.45 A; Part Number: 74404041680; Rated Current: 0.45 A; Inductance: 68 uH; DC Resistance max.: 1794 mOhm; Self Resonant Frequency: 13 MHz; Saturation Current: 0.48 A; ComponentLink1Description: Manufacturer; ComponentLink1URL: http://www.we-online.de; ComponentLink2Description: Datasheet; ComponentLink2URL: https://katalog.we-online.de/pbs/datasheet/74404041680.pdf; Published Date: November 2018; Publisher: Wurth Elektronik; Size: 4012; Operating Temperature: -40 to +125 degC; Mounting Technology: SMT; Packaging: Tape and Reel
footprint WE-LQS_4012
pins: 1, 2

## 744040410047
designator L?, comment 0.47 uH, 3.25 A
SMT Semi-Shielded Power Inductor WE-LQS, size 4012, 0.47 uH, 3.25 A; Part Number: 744040410047; Rated Current: 3.25 A; Inductance: 0.47 uH; DC Resistance max.: 33.6 mOhm; Self Resonant Frequency: 274 MHz; Saturation Current: 4.25 A; ComponentLink1Description: Manufacturer; ComponentLink1URL: http://www.we-online.de; ComponentLink2Description: Datasheet; ComponentLink2URL: https://katalog.we-online.de/pbs/datasheet/744040410047.pdf; Published Date: November 2018; Publisher: Wurth Elektronik; Size: 4012; Operating Temperature: -40 to +125 degC; Mounting Technology: SMT; Packaging: Tape and Reel
footprint WE-LQS_4012
pins: 1, 2


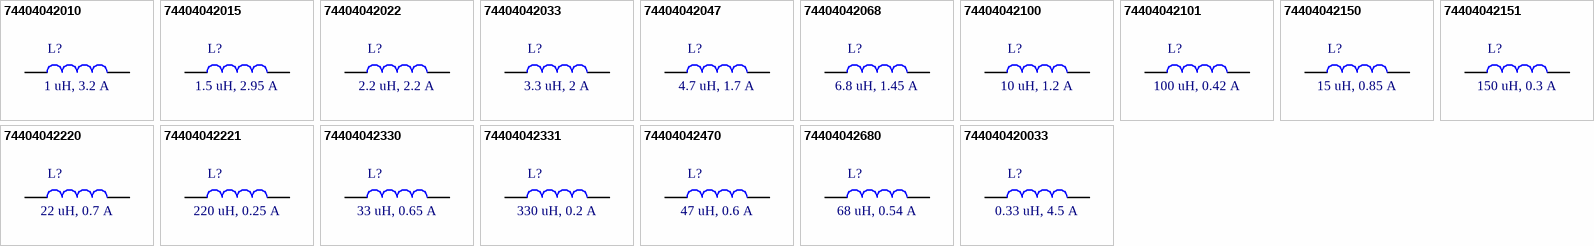
[diagram p5: symbols 74404042010 to 744040420033]

## 74404042010
designator L?, comment 1 uH, 3.2 A
SMT Semi-Shielded Power Inductor WE-LQS, size 4018, 1 uH, 3.2 A; Part Number: 74404042010; Rated Current: 3.2 A; Inductance: 1 uH; DC Resistance max.: 32.4 mOhm; Self Resonant Frequency: 112 MHz; Saturation Current: 4.8 A; ComponentLink1Description: Manufacturer; ComponentLink1URL: http://www.we-online.de; ComponentLink2Description: Datasheet; ComponentLink2URL: https://katalog.we-online.de/pbs/datasheet/74404042010.pdf; Published Date: November 2018; Publisher: Wurth Elektronik; Size: 4018; Operating Temperature: -40 to +125 degC; Mounting Technology: SMT; Packaging: Tape and Reel
footprint WE-LQS_4018
pins: 1, 2

## 74404042015
designator L?, comment 1.5 uH, 2.95 A
SMT Semi-Shielded Power Inductor WE-LQS, size 4018, 1.5 uH, 2.95 A; Part Number: 74404042015; Rated Current: 2.95 A; Inductance: 1.5 uH; DC Resistance max.: 37.2 mOhm; Self Resonant Frequency: 100 MHz; Saturation Current: 4.3 A; ComponentLink1Description: Manufacturer; ComponentLink1URL: http://www.we-online.de; ComponentLink2Description: Datasheet; ComponentLink2URL: https://katalog.we-online.de/pbs/datasheet/74404042015.pdf; Published Date: November 2018; Publisher: Wurth Elektronik; Size: 4018; Operating Temperature: -40 to +125 degC; Mounting Technology: SMT; Packaging: Tape and Reel
footprint WE-LQS_4018
pins: 1, 2

## 74404042022
designator L?, comment 2.2 uH, 2.2 A
SMT Semi-Shielded Power Inductor WE-LQS, size 4018, 2.2 uH, 2.2 A; Part Number: 74404042022; Rated Current: 2.2 A; Inductance: 2.2 uH; DC Resistance max.: 50.4 mOhm; Self Resonant Frequency: 70 MHz; Saturation Current: 3.4 A; ComponentLink1Description: Manufacturer; ComponentLink1URL: http://www.we-online.de; ComponentLink2Description: Datasheet; ComponentLink2URL: https://katalog.we-online.de/pbs/datasheet/74404042022.pdf; Published Date: November 2018; Publisher: Wurth Elektronik; Size: 4018; Operating Temperature: -40 to +125 degC; Mounting Technology: SMT; Packaging: Tape and Reel
footprint WE-LQS_4018
pins: 1, 2

## 74404042033
designator L?, comment 3.3 uH, 2 A
SMT Semi-Shielded Power Inductor WE-LQS, size 4018, 3.3 uH, 2 A; Part Number: 74404042033; Rated Current: 2 A; Inductance: 3.3 uH; DC Resistance max.: 66 mOhm; Self Resonant Frequency: 56 MHz; Saturation Current: 2.9 A; ComponentLink1Description: Manufacturer; ComponentLink1URL: http://www.we-online.de; ComponentLink2Description: Datasheet; ComponentLink2URL: https://katalog.we-online.de/pbs/datasheet/74404042033.pdf; Published Date: November 2018; Publisher: Wurth Elektronik; Size: 4018; Operating Temperature: -40 to +125 degC; Mounting Technology: SMT; Packaging: Tape and Reel
footprint WE-LQS_4018
pins: 1, 2

## 74404042047
designator L?, comment 4.7 uH, 1.7 A
SMT Semi-Shielded Power Inductor WE-LQS, size 4018, 4.7 uH, 1.7 A; Part Number: 74404042047; Rated Current: 1.7 A; Inductance: 4.7 uH; DC Resistance max.: 84 mOhm; Self Resonant Frequency: 44 MHz; Saturation Current: 2.2 A; ComponentLink1Description: Manufacturer; ComponentLink1URL: http://www.we-online.de; ComponentLink2Description: Datasheet; ComponentLink2URL: https://katalog.we-online.de/pbs/datasheet/74404042047.pdf; Published Date: November 2018; Publisher: Wurth Elektronik; Size: 4018; Operating Temperature: -40 to +125 degC; Mounting Technology: SMT; Packaging: Tape and Reel
footprint WE-LQS_4018
pins: 1, 2

## 74404042068
designator L?, comment 6.8 uH, 1.45 A
SMT Semi-Shielded Power Inductor WE-LQS, size 4018, 6.8 uH, 1.45 A; Part Number: 74404042068; Rated Current: 1.45 A; Inductance: 6.8 uH; DC Resistance max.: 117.6 mOhm; Self Resonant Frequency: 39 MHz; Saturation Current: 1.8 A; ComponentLink1Description: Manufacturer; ComponentLink1URL: http://www.we-online.de; ComponentLink2Description: Datasheet; ComponentLink2URL: https://katalog.we-online.de/pbs/datasheet/74404042068.pdf; Published Date: November 2018; Publisher: Wurth Elektronik; Size: 4018; Operating Temperature: -40 to +125 degC; Mounting Technology: SMT; Packaging: Tape and Reel
footprint WE-LQS_4018
pins: 1, 2

## 74404042100
designator L?, comment 10 uH, 1.2 A
SMT Semi-Shielded Power Inductor WE-LQS, size 4018, 10 uH, 1.2 A; Part Number: 74404042100; Rated Current: 1.2 A; Inductance: 10 uH; DC Resistance max.: 180 mOhm; Self Resonant Frequency: 28 MHz; Saturation Current: 1.5 A; ComponentLink1Description: Manufacturer; ComponentLink1URL: http://www.we-online.de; ComponentLink2Description: Datasheet; ComponentLink2URL: https://katalog.we-online.de/pbs/datasheet/74404042100.pdf; Published Date: November 2018; Publisher: Wurth Elektronik; Size: 4018; Operating Temperature: -40 to +125 degC; Mounting Technology: SMT; Packaging: Tape and Reel
footprint WE-LQS_4018
pins: 1, 2

## 74404042101
designator L?, comment 100 uH, 0.42 A
SMT Semi-Shielded Power Inductor WE-LQS, size 4018, 100 uH, 0.42 A; Part Number: 74404042101; Rated Current: 0.42 A; Inductance: 100 uH; DC Resistance max.: 1716 mOhm; Self Resonant Frequency: 8 MHz; Saturation Current: 0.56 A; ComponentLink1Description: Manufacturer; ComponentLink1URL: http://www.we-online.de; ComponentLink2Description: Datasheet; ComponentLink2URL: https://katalog.we-online.de/pbs/datasheet/74404042101.pdf; Published Date: November 2018; Publisher: Wurth Elektronik; Size: 4018; Operating Temperature: -40 to +125 degC; Mounting Technology: SMT; Packaging: Tape and Reel
footprint WE-LQS_4018
pins: 1, 2

## 74404042150
designator L?, comment 15 uH, 0.85 A
SMT Semi-Shielded Power Inductor WE-LQS, size 4018, 15 uH, 0.85 A; Part Number: 74404042150; Rated Current: 0.85 A; Inductance: 15 uH; DC Resistance max.: 252 mOhm; Self Resonant Frequency: 22 MHz; Saturation Current: 1.2 A; ComponentLink1Description: Manufacturer; ComponentLink1URL: http://www.we-online.de; ComponentLink2Description: Datasheet; ComponentLink2URL: https://katalog.we-online.de/pbs/datasheet/74404042150.pdf; Published Date: November 2018; Publisher: Wurth Elektronik; Size: 4018; Operating Temperature: -40 to +125 degC; Mounting Technology: SMT; Packaging: Tape and Reel
footprint WE-LQS_4018
pins: 1, 2

## 74404042151
designator L?, comment 150 uH, 0.3 A
SMT Semi-Shielded Power Inductor WE-LQS, size 4018, 150 uH, 0.3 A; Part Number: 74404042151; Rated Current: 0.3 A; Inductance: 150 uH; DC Resistance max.: 3423.6 mOhm; Self Resonant Frequency: 7.5 MHz; Saturation Current: 0.45 A; ComponentLink1Description: Manufacturer; ComponentLink1URL: http://www.we-online.de; ComponentLink2Description: Datasheet; ComponentLink2URL: https://katalog.we-online.de/pbs/datasheet/74404042151.pdf; Published Date: November 2018; Publisher: Wurth Elektronik; Size: 4018; Operating Temperature: -40 to +125 degC; Mounting Technology: SMT; Packaging: Tape and Reel
footprint WE-LQS_4018
pins: 1, 2

## 74404042220
designator L?, comment 22 uH, 0.7 A
SMT Semi-Shielded Power Inductor WE-LQS, size 4018, 22 uH, 0.7 A; Part Number: 74404042220; Rated Current: 0.7 A; Inductance: 22 uH; DC Resistance max.: 348 mOhm; Self Resonant Frequency: 17 MHz; Saturation Current: 1.1 A; ComponentLink1Description: Manufacturer; ComponentLink1URL: http://www.we-online.de; ComponentLink2Description: Datasheet; ComponentLink2URL: https://katalog.we-online.de/pbs/datasheet/74404042220.pdf; Published Date: November 2018; Publisher: Wurth Elektronik; Size: 4018; Operating Temperature: -40 to +125 degC; Mounting Technology: SMT; Packaging: Tape and Reel
footprint WE-LQS_4018
pins: 1, 2

## 74404042221
designator L?, comment 220 uH, 0.25 A
SMT Semi-Shielded Power Inductor WE-LQS, size 4018, 220 uH, 0.25 A; Part Number: 74404042221; Rated Current: 0.25 A; Inductance: 220 uH; DC Resistance max.: 4140 mOhm; Self Resonant Frequency: 5.3 MHz; Saturation Current: 0.39 A; ComponentLink1Description: Manufacturer; ComponentLink1URL: http://www.we-online.de; ComponentLink2Description: Datasheet; ComponentLink2URL: https://katalog.we-online.de/pbs/datasheet/74404042221.pdf; Published Date: November 2018; Publisher: Wurth Elektronik; Size: 4018; Operating Temperature: -40 to +125 degC; Mounting Technology: SMT; Packaging: Tape and Reel
footprint WE-LQS_4018
pins: 1, 2